# EAGLE library part 87833-1420 (library project)
14 Pin - 2mm Dual Row Single Wafer, Horizontal T/H HDR Source: http://www.molex.com/pdm_docs/sd/878331420_sd.pdf
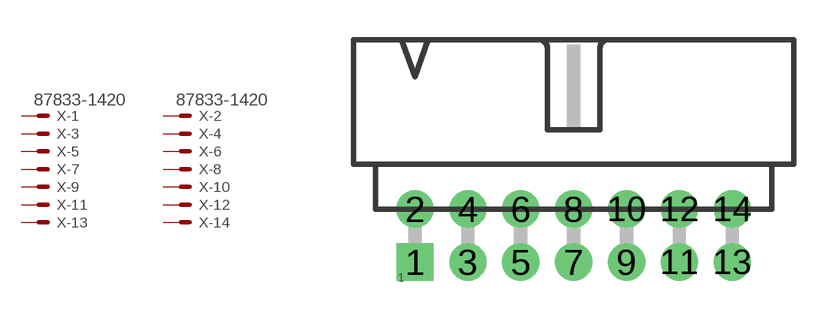
[diagram p5: symbol with the pads of 87833-1420; footprint 87833-1420]

Designator prefix X; gates -1=MV -2=MV -3=M -4=M -5=M -6=M -7=M -8=M -9=M -10=M -11=M -12=M -13=M -14=M

## 87833-1420  [87833-1420]
1  -1:S  pas
2  -2:S  pas
3  -3:S  pas
4  -4:S  pas
5  -5:S  pas
6  -6:S  pas
7  -7:S  pas
8  -8:S  pas
9  -9:S  pas
10  -10:S  pas
11  -11:S  pas
12  -12:S  pas
13  -13:S  pas
14  -14:S  pas

## Footprint 87833-1420 (pad centres in mm)
14 Pin - 2mm Dual Row Single Wafer, Horizontal T/H HDR Source: http://www.molex.com/pdm_docs/sd/878331420_sd.pdf
drill 0.9 pad 1.27 square: 1 -6,-1.16
drill 0.9 pad 1.27 round: 2 -6,0.84; 3 -4,-1.16; 4 -4,0.84; 5 -2,-1.16; 6 -2,0.84; 7 0,-1.16; 8 0,0.84; 9 2,-1.16; 10 2,0.84; 11 4,-1.16; 12 4,0.84; 13 6,-1.16; 14 6,0.84